# EAGLE library part MCP3008 (library PiB)
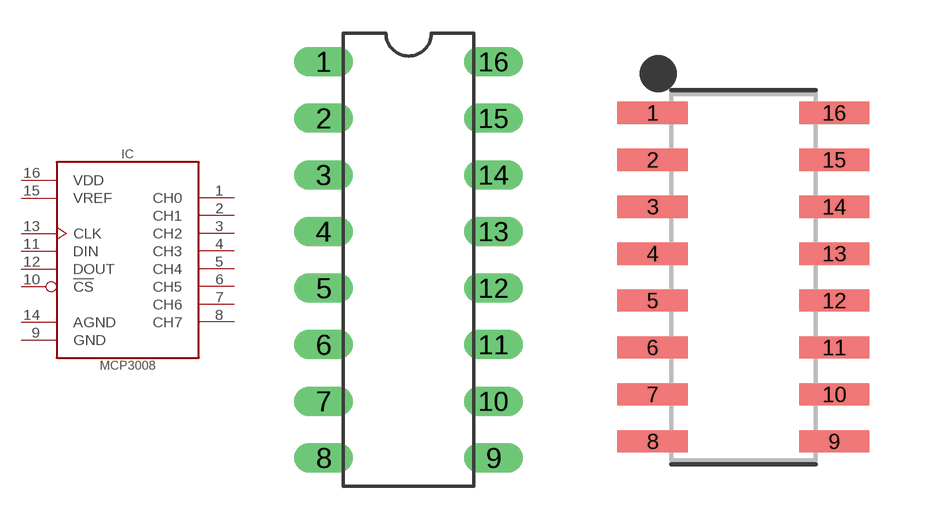
[diagram p7: symbol with the pads of DIP-16; footprints DIP-16, SOIC127P600X175-16]

Designator prefix IC

## MCP3008DIP-16 (CREATOR: MrSwirlyEyes; DATASHEET: http://ww1.microchip.com/downloads/en/DeviceDoc/21295d.pdf; DIST: Digikey; DISTLINK: https://www.digikey.com/products/en?keywords=MCP3008-I%2FP-ND; DISTPN: MCP3008-I/P-ND; MFR: Microchip Technology; MPN: MCP3008-I/P; TESTED: NO; VALUE: MCP3008)  [DIP-16]
1  CH0  in
2  CH1  in
3  CH2  in
4  CH3  in
5  CH4  in
6  CH5  in
7  CH6  in
8  CH7  in
9  GND  pwr
10  !CS  in
11  DIN  in
12  DOUT  out
13  CLK  in
14  AGND  pwr
15  VREF  in
16  VDD  pwr

## MCP3008_ADC_8-CH_10-BIT_SOIC-16 (DATASHEET: http://ww1.microchip.com/downloads/en/DeviceDoc/21295d.pdf; DIST: Digikey; DISTLINK: https://www.digikey.com/products/en?keywords=MCP3008-I%2FSL-ND; DISTPN: MCP3008-I/SL-ND; MFR: Microchip Technology; MPN: MCP3008-I/SL; VALUE: MCP3008)  [SOIC127P600X175-16]
Pads as for DIP-16

## Footprint DIP-16 (pad centres in mm)
Dual In Line Package
drill 0.813 long: 1 -3.81,8.89; 2 -3.81,6.35; 3 -3.81,3.81; 4 -3.81,1.27; 5 -3.81,-1.27; 6 -3.81,-3.81; 7 -3.81,-6.35; 8 -3.81,-8.89; 9 3.81,-8.89; 10 3.81,-6.35; 11 3.81,-3.81; 12 3.81,-1.27; 13 3.81,1.27; 14 3.81,3.81; 15 3.81,6.35; 16 3.81,8.89

## Footprint SOIC127P600X175-16 (pad centres in mm)
16-SOIC, 1.27 mm pitch, 6.00 mm span, 9.90 X 3.90 X 1.75 mm body 16-pin SOIC package with 1.27 mm pitch, 6.00 mm span with body size 9.90 X 3.90 X 1.75 mm
smd 1.901 x 0.599: 1 -2.455,4.445; 2 -2.455,3.175; 3 -2.455,1.905; 4 -2.455,0.635; 5 -2.455,-0.635; 6 -2.455,-1.905; 7 -2.455,-3.175; 8 -2.455,-4.445; 9 2.455,-4.445; 10 2.455,-3.175; 11 2.455,-1.905; 12 2.455,-0.635; 13 2.455,0.635; 14 2.455,1.905; 15 2.455,3.175; 16 2.455,4.445